# EAGLE library part MIC5219 (library microchip)
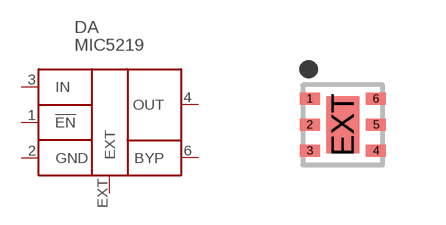
[diagram p1: symbol with the pads of 6-VQFN; footprint 6-VQFN]

Designator prefix DA

## MIC5219-2.8BML  [6-VQFN]
1  !EN  in
2  GND  pwr
3  IN  pwr
4  OUT  pwr
6  BYP  pwr
EXT  EXT  pwr

## MIC5219-3.0BML  [6-VQFN]
Pads as for 6-VQFN

## MIC5219-3.3BML  [6-VQFN]
Pads as for 6-VQFN

## Footprint 6-VQFN (pad centres in mm)
smd 0.5 x 0.3: 1 -0.83,0.65; 2 -0.83,0; 3 -0.83,-0.65; 4 0.83,-0.65; 5 0.83,0; 6 0.83,0.65
smd 0.82 x 1.42: EXT 0,0